# EAGLE library part ICSP_HEADER (library PiezoFFC)
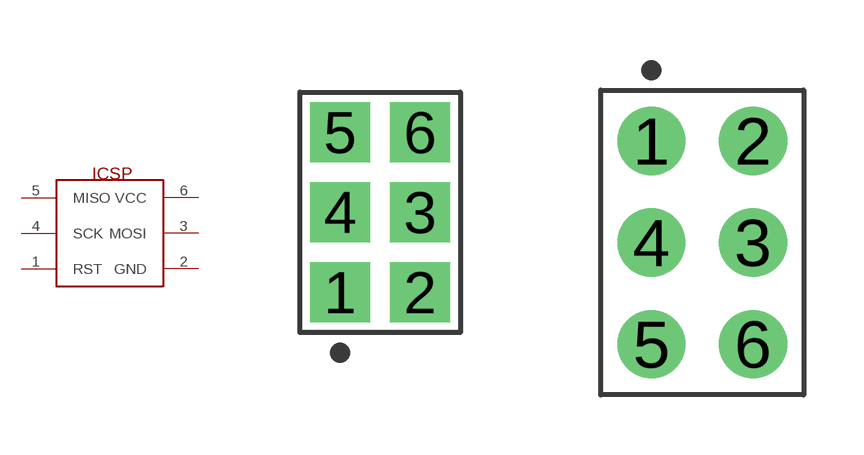
[diagram p3: symbol with the pads of ICSP_3X2_2MM_STRAIGHT; footprints ICSP_3X2_2MM_STRAIGHT, ICSP_3X2_2.54_STRAIGHT]

Designator prefix J

## ICSP_HEADERICSP-2MM  [ICSP_3X2_2MM_STRAIGHT]
1  RST
2  GND  pwr
3  MOSI
4  SCK
5  MISO
6  VCC  pwr

## ICSP_HEADERICSP-2.54MM  [ICSP_3X2_2.54_STRAIGHT]
1  MISO
2  VCC  pwr
3  MOSI
4  SCK
5  RST
6  GND  pwr

## ICSP_HEADERICSP_2.54MM_RIGHT  [ICSP_2X3_2.54_RIGHT]
1  VCC  pwr
2  MOSI
3  GND  pwr
4  RST
5  SCK
6  MISO

## ICSP_HEADERSPRING_2X1.5  [ICSP_3X2_2X1.5_SPRING_CONTACTS]
1  RST
2  GND  pwr
3  MOSI
4  SCK
5  MISO
6  VCC  pwr
P$1  RST
P$2  GND  pwr
P$3  MOSI
P$4  SCK
P$5  MISO
P$6  VCC  pwr

## ICSP_HEADERSPRING_3.48X1.1  [ICSP_3X2_3.48X1.1_SPRING_CONTACTS]
1  GND  pwr
2  RST
3  SCK
4  MOSI
5  VCC  pwr
6  MISO
P$1  GND  pwr
P$2  RST
P$3  SCK
P$4  MOSI
P$5  VCC  pwr
P$6  MISO

## Footprint ICSP_3X2_2MM_STRAIGHT (pad centres in mm)
Three-row, 6-pin Pin Header (Male) Straight, 2.00 mm (0.08 in) row pitch, 2.00 mm (0.08 in) col pitch, 4.00 mm mating length, 4.00 X 6.00 X 5.50 mm body Three-row (3X2), 6-pin Pin Header (Male) Straight package with 2.00 mm (0.08 in) row pitch, 2.00 mm (0.08 in) col pitch, 0.50 mm lead width, 2.60 mm tail length and 4.00 mm mating length with overall size 4.00 X 6.00 X 5.50 mm, pin pattern - counter-clockwise from bottom left
drill 0.907 pad 1.507 square: 1 0,0; 2 2,0; 3 2,2; 4 0,2; 5 0,4; 6 2,4

## Footprint ICSP_3X2_2.54_STRAIGHT (pad centres in mm)
Three-row, 6-pin Pin Header (Male) Straight, 2.54 mm (0.10 in) row pitch, 2.54 mm (0.10 in) col pitch, 5.84 mm mating length, 5.08 X 7.62 X 8.38 mm body Three-row (3X2), 6-pin Pin Header (Male) Straight package with 2.54 mm (0.10 in) row pitch, 2.54 mm (0.10 in) col pitch, 0.64 mm lead width, 3.00 mm tail length and 5.84 mm mating length with overall size 5.08 X 7.62 X 8.38 mm, pin pattern - clockwise from top left
drill 1.105 pad 1.705: 1 0,0; 2 2.54,0; 3 2.54,-2.54; 4 0,-2.54; 5 0,-5.08; 6 2.54,-5.08

## Footprint ICSP_2X3_2.54_RIGHT (pad centres in mm)
Double-row, 6-pin Pin Header (Male) Right Angle, 2.54 mm (0.10 in) row pitch, 2.54 mm (0.10 in) col pitch, 5.84 mm mating length, 7.62 X 2.54 X 5.08 mm body Double-row (2X3), 6-pin Pin Header (Male) Right Angle package with 2.54 mm (0.10 in) row pitch, 2.54 mm (0.10 in) col pitch, 0.64 mm lead width, 3.00 mm tail length and 5.84 mm mating length with body size 7.62 X 2.54 X 5.08 mm, pin pattern - clockwise from top left
drill 1.105 pad 1.705: 1 0,0; 2 2.54,0; 3 5.08,0; 4 5.08,-2.54; 5 2.54,-2.54; 6 0,-2.54

## Footprint ICSP_3X2_2X1.5_SPRING_CONTACTS (pad centres in mm)
Three-row, 6-pin Pin Header (Male) Straight, 2.00 mm (0.08 in) row pitch, 2.00 mm (0.08 in) col pitch, 4.00 mm mating length, 4.00 X 6.00 X 5.50 mm body Three-row (3X2), 6-pin Pin Header (Male) Straight package with 2.00 mm (0.08 in) row pitch, 2.00 mm (0.08 in) col pitch, 0.50 mm lead width, 2.60 mm tail length and 4.00 mm mating length with overall size 4.00 X 6.00 X 5.50 mm, pin pattern - counter-clockwise from bottom left
drill 0.7 pad 1.25 square: 1 0,0; 2 2,0; 3 2,2; 4 0,2; 5 0,4; 6 2,4
smd 2.5 x 1.5: P$1 -0.508,0; P$2 2.508,0; P$3 2.508,2; P$4 -0.508,2; P$5 -0.508,4; P$6 2.508,4

## Footprint ICSP_3X2_3.48X1.1_SPRING_CONTACTS (pad centres in mm)
Three-row, 6-pin Pin Header (Male) Straight, 2.00 mm (0.08 in) row pitch, 2.00 mm (0.08 in) col pitch, 4.00 mm mating length, 4.00 X 6.00 X 5.50 mm body Three-row (3X2), 6-pin Pin Header (Male) Straight package with 2.00 mm (0.08 in) row pitch, 2.00 mm (0.08 in) col pitch, 0.50 mm lead width, 2.60 mm tail length and 4.00 mm mating length with overall size 4.00 X 6.00 X 5.50 mm, pin pattern - counter-clockwise from bottom left
drill 0.7 pad 1.25 square: 1 0,0; 2 2,0; 3 2,2; 4 0,2; 5 0,4; 6 2,4
smd 1.75 x 1.3: P$1 -0.254,0; P$2 2.254,0; P$3 2.254,2; P$4 -0.254,2; P$5 -0.254,4; P$6 2.254,4